# Altium schematic symbol library TPS613222ADBVR.Schlib: 1 symbol
Pins are listed as number, name and electrical type; pins without a type are passive.

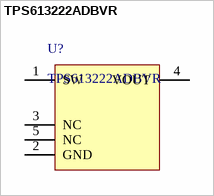
[diagram p0: symbol TPS613222ADBVR]

## TPS613222ADBVR
designator U?
Boost Switching Regulator IC Positive Fixed 5V 1 Output 2.5A (Switch) SC-74A, SOT-753
pins: 1 SW (power), 2 GND (power), 3 NC, 4 VOUT (power), 5 NC